# Altium footprint library PcbLib.PcbLib: 43 footprints (part 2 of 3)
Each footprint in its own frame and in the unit in brackets; x right, y up, seen from the top. Pads: shape width x height; smd on the part's side, far side on the other; paste and mask are expansions set on the pad; w line width, h text height; cw(c..) or ccw(c..) is an arc to the next point about the centre after c.
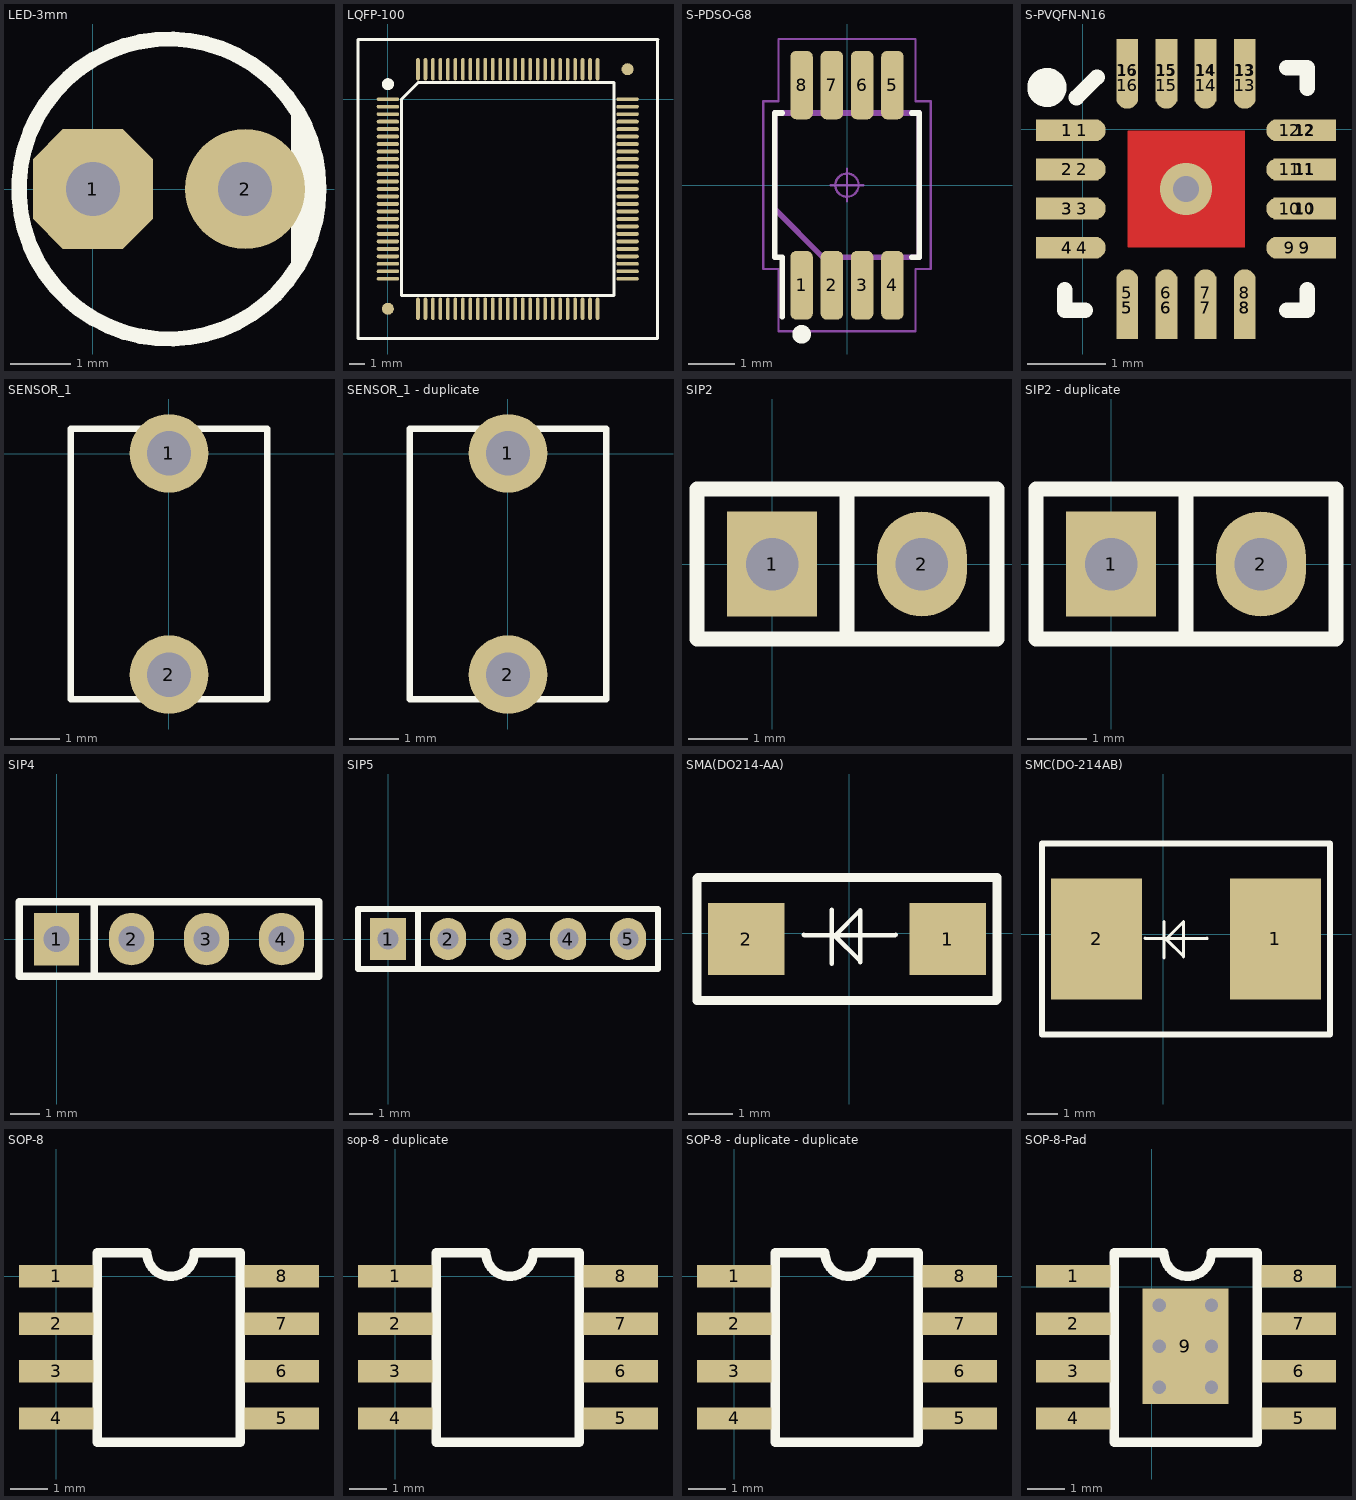
[diagram p1: the footprints below, top view; thin cyan lines are the x and y axes]

## LED-3mm [mm]
height 1
pads (2):
  oct 2x2 hole 0.9: 1(0,0)
  round 2 hole 0.9: 2(2.54,0)
Top Overlay:
  circle w0.254: c1.27,0 r2.5
  lines w0.254: 3.429,-1.27 3.429,1.27 ; 3.556,-0.635 3.556,0.762

## LQFP-100 [mm]
height 1.1
pads (102):
  oval 1.5x0.25 smd: 1(0,0) 2(0,-0.5) 3(0,-1) 4(0,-1.5) 5(0,-2) 6(0,-2.5) 7(0,-3) 8(0,-3.5) 9(0,-4) 10(0,-4.5) 11(0,-5) 12(0,-5.5) 13(0,-6) 14(0,-6.5) 15(0,-7) 16(0,-7.5) 17(0,-8) 18(0,-8.5) 19(0,-9) 20(0,-9.5) 21(0,-10) 22(0,-10.5) 23(0,-11) 24(0,-11.5) 25(0,-12) 51(16,-12) 52(16,-11.5) 53(16,-11) 54(16,-10.5) 55(16,-10) 56(16,-9.5) 57(16,-9) 58(16,-8.5) 59(16,-8) 60(16,-7.5) 61(16,-7) 62(16,-6.5) 63(16,-6) 64(16,-5.5) 65(16,-5) 66(16,-4.5) 67(16,-4) 68(16,-3.5) 69(16,-3) 70(16,-2.5) 71(16,-2) 72(16,-1.5) 73(16,-1) 74(16,-0.5) 75(16,0)
  oval 0.25x1.5 smd: 26(2,-14) 27(2.5,-14) 28(3,-14) 29(3.5,-14) 30(4,-14) 31(4.5,-14) 32(5,-14) 33(5.5,-14) 34(6,-14) 35(6.5,-14) 36(7,-14) 37(7.5,-14) 38(8,-14) 39(8.5,-14) 40(9,-14) 41(9.5,-14) 42(10,-14) 43(10.5,-14) 44(11,-14) 45(11.5,-14) 46(12,-14) 47(12.5,-14) 48(13,-14) 49(13.5,-14) 50(14,-14) 76(14,2) 77(13.5,2) 78(13,2) 79(12.5,2) 80(12,2) 81(11.5,2) 82(11,2) 83(10.5,2) 84(10,2) 85(9.5,2) 86(9,2) 87(8.5,2) 88(8,2) 89(7.5,2) 90(7,2) 91(6.5,2) 92(6,2) 93(5.5,2) 94(5,2) 95(4.5,2) 96(4,2) 97(3.5,2) 98(3,2) 99(2.5,2) 100(2,2)
  round 0.8 smd: ""(0,-14) ""(16,2)
Top Overlay:
  circle w0.4: c0,1 r0.2
  lines w0.2: 18,4 18,-16 -2,-16 -2,4 18.034,4 ; 0.9,-13.1 15.1,-13.1 15.1,1.1 2,1.1 0.9,0 0.9,-13.1

## S-PDSO-G8 [mm] "Small Outline Pkg (SOP), 0.65 mm pitch; 8 pin, 3.00 mm L X 3.00 mm W X 1.10 mm H body"
height 1.1
pads (8):
  rrect50% 0.48x1.47 smd: 1(-0.975,-2.15) 2(-0.325,-2.15) 3(0.325,-2.15) 4(0.975,-2.15) 5(0.975,2.15) 6(0.325,2.15) 7(-0.325,2.15) 8(-0.975,2.15)
Top Overlay:
  circle w0.2: c-0.975,-3.205 r0.1
  lines w0.12: -1.395,-2.825 -1.395,-1.55 -1.55,-1.55 -1.55,1.55 -1.395,1.55 ; 1.395,-1.55 1.55,-1.55 1.55,1.55 1.395,1.55
Mechanical 11:
  lines w0.12: -1.55,-0.517 -0.517,-1.55 1.55,-1.55 1.55,1.55 -1.55,1.55 -1.55,-0.517
Mechanical 15:
  circle w0.05: c0,0 r0.25
  lines w0.05: -0.35,0 0.35,0 ; 0,-0.35 0,0.35 ; -1.8,-1.8 -1.47,-1.8 -1.47,-3.14 1.47,-3.14 1.47,-1.8 1.8,-1.8 1.8,1.8 1.47,1.8 1.47,3.14 -1.47,3.14 -1.47,1.8 -1.8,1.8 -1.8,-1.8

## S-PVQFN-N16 [mm]
height 1
pads (48):
  rect 0.28x0.28 smd: 1(-0.194,-0.012) 2(-0.194,-0.512) 3(-0.194,-1.012) 4(-0.194,-1.512) 5(0.571,-2.277) 6(1.071,-2.277) 7(1.571,-2.277) 8(2.071,-2.277) 9(2.836,-1.512) 10(2.836,-1.012) 11(2.836,-0.512) 12(2.836,-0.012) 13(2.071,0.753) 14(1.571,0.753) 15(1.071,0.753) 16(0.571,0.753)
  rect 0.8x0.28 smd: 1(-0.194,-0.012) 2(-0.194,-0.512) 3(-0.194,-1.012) 4(-0.194,-1.512) 9(2.836,-1.512) 10(2.836,-1.012) 11(2.836,-0.512) 12(2.836,-0.012)
  oval 0.6x0.28 smd: 1(-0.004,-0.012) 2(-0.004,-0.512) 3(-0.004,-1.012) 4(-0.004,-1.512) 9(2.646,-1.512) 10(2.646,-1.012) 11(2.646,-0.512) 12(2.646,-0.012)
  rect 0.28x0.8 smd: 5(0.571,-2.277) 6(1.071,-2.277) 7(1.571,-2.277) 8(2.071,-2.277) 13(2.071,0.753) 14(1.571,0.753) 15(1.071,0.753) 16(0.571,0.753)
  oval 0.28x0.6 smd: 5(0.571,-2.087) 6(1.071,-2.087) 7(1.571,-2.087) 8(2.071,-2.087) 13(2.071,0.563) 14(1.571,0.563) 15(1.071,0.563) 16(0.571,0.563)
via 1.321,-0.762 diameter 0.66 hole 0.33
Top Layer:
  region: 0.573,-0.012 0.573,-1.512 2.073,-1.512 2.073,-0.012
Top Overlay:
  circle w0.25: c-0.455,0.533 r0.125
  lines w0.2: -0.229,-2.052 -0.229,-2.312 0.031,-2.312 ; -0.076,0.406 0.184,0.666 ; 2.611,-2.312 2.871,-2.312 2.871,-2.052 ; 2.611,0.788 2.871,0.788 2.871,0.528

## SENSOR_1 [mm]
height 1
pads (2):
  round 1.6 hole 0.9: 1(0,0.004) 2(0,-4.496)
Top Overlay:
  lines w0.127: -2,-4.996 -2,0.504 2,0.504 2,-4.996 -2,-4.996

## SENSOR_1 - duplicate [mm]
height 1.1
pads (2):
  round 1.6 hole 0.9: 1(0,0.004) 2(0,-4.496)
Top Overlay:
  lines w0.127: -2,-4.996 2,-4.996 2,0.504 -2,0.504 -2,-4.996

## SIP2 [mil]
height 39.37
pads (2):
  rect 60x70 hole 35: 1(0,0)
  oval 60x70 hole 35: 2(100,0)
Top Overlay:
  lines w10: 50,-50 50,50 ; -50,-50 -50,50 150,50 150,-50 -50,-50

## SIP2 - duplicate [mil]
height 43.31
pads (2):
  rect 60x70 hole 35: 1(0,0)
  oval 60x70 hole 35: 2(100,0)
Top Overlay:
  lines w10: 50,-50 50,50 ; -50,-50 -50,50 150,50 150,-50 -50,-50

## SIP4 [mil]
height 39.37
pads (4):
  rect 60x70 hole 35: 1(0,0)
  oval 60x70 hole 35: 2(100,0) 3(200,0) 4(300,0)
Top Overlay:
  lines w10: 50,-50 50,50 ; -50,-50 350,-50 350,50 -50,50 -50,-50

## SIP5 [mil]
height 43.31
pads (5):
  rect 60x70 hole 35: 1(0,0)
  oval 60x70 hole 35: 2(100,0) 3(200,0) 4(300,0) 5(400,0)
Top Overlay:
  lines w10: 50,-50 50,50 ; -50,-50 450,-50 450,50 -50,50 -50,-50

## SMA(DO214-AA) [mm]
height 1.1
pads (2):
  rect 1.7x1.6 smd: 1(2.2,-0.125) 2(-2.3,-0.125)
Top Overlay:
  lines w0.1: -1.015,-0.025 -1.002,-0.038 -0.334,-0.038 ; -0.39,-0.675 -0.39,0.525 ; 0.25,-0.648 0.25,-0.622 ; 1.035,-0.025 1.022,-0.038 0.479,-0.038 -0.41,-0.038 -0.334,-0.038 ; -0.334,-0.038 0.25,-0.622 ; -0.334,-0.038 -0.309,-0.038 0.25,0.521 0.25,-0.622
  lines w0.2: -3.4,-0.925 -3.4,1.225 ; -3.4,1 -3.4,-1.5 -2.1,-1.5 ; -3.175,-1.5 3.1,-1.5 ; -3.15,1.25 -2.125,1.25 ; -2.5,-1.5 2.5,-1.5 ; -2.475,1.25 0.025,1.25 2.525,1.25 3.125,1.25 3.3,1.25 3.3,0.725 ; 3.3,-1.475 3.3,1
  lines w0.203: -3.4,1.225 -3.375,1.25 -2.375,1.25 ; 2.6,-1.5 3.275,-1.5 3.3,-1.475

## SMC(DO-214AB) [mm]
height 1.1
pads (2):
  rect 3x4 smd: 1(3.7,-0.15) 2(-2.2,-0.15)
Top Overlay:
  lines w0.1: -0.6,-0.125 -0.587,-0.138 0.081,-0.138 ; 0.025,-0.775 0.025,0.425 ; 0.665,-0.748 0.665,-0.722 ; 1.45,-0.125 1.437,-0.138 0.893,-0.138 0.004,-0.138 0.081,-0.138 ; 0.081,-0.138 0.106,-0.138 0.665,0.421 0.665,-0.722 ; 0.081,-0.138 0.665,-0.722
  lines w0.203: -3,3 3.5,3 5.5,3 5.5,-3.3 3.6,-3.3 ; -2.4,3 -4,3 -4,-3.3 -3.2,-3.3 4,-3.3

## SOP-8 [mm]
height 1
pads (8):
  rect 2x0.6 smd: 1(0,0) 2(0,-1.27) 3(0,-2.54) 4(0,-3.81) 5(6.048,-3.81) 6(6.048,-2.54) 7(6.048,-1.27) 8(6.048,0)
Top Overlay:
  lines w0.254: 1.098,-4.445 4.938,-4.445 4.938,0.635 3.703,0.635 cw(c3.068,0.635) 2.433,0.635 1.098,0.635 1.098,-4.445

## sop-8 - duplicate [mm]
height 1.1
pads (8):
  rect 2x0.6 smd: 1(0,0) 2(0,-1.27) 3(0,-2.54) 4(0,-3.81) 5(6.048,-3.81) 6(6.048,-2.54) 7(6.048,-1.27) 8(6.048,0)
Top Overlay:
  lines w0.254: 1.098,-4.445 1.098,0.635 2.433,0.635 ccw(c3.068,0.635) 3.703,0.635 4.938,0.635 4.938,-4.445 1.098,-4.445

## SOP-8 - duplicate - duplicate [mm]
pads (8):
  rect 2x0.6 smd: 1(0,0) 2(0,-1.27) 3(0,-2.54) 4(0,-3.81) 5(6.048,-3.81) 6(6.048,-2.54) 7(6.048,-1.27) 8(6.048,0)
Top Overlay:
  lines w0.254: 1.098,-4.445 4.938,-4.445 4.938,0.635 3.703,0.635 cw(c3.068,0.635) 2.433,0.635 1.098,0.635 1.098,-4.445

## SOP-8-Pad [mm]
height 1.1
pads (9):
  rect 2x0.6 smd: 1(-2.109,0.271) 2(-2.109,-0.999) 3(-2.109,-2.269) 4(-2.109,-3.539) 5(3.939,-3.539) 6(3.939,-2.269) 7(3.939,-0.999) 8(3.939,0.271)
  rect 2.3x3.1 smd: 9(0.9,-1.6)
via 0.2,-0.5 diameter 0.711 hole 0.356
via 1.6,-0.5 diameter 0.711 hole 0.356
via 0.2,-2.7 diameter 0.711 hole 0.356
via 1.6,-2.7 diameter 0.711 hole 0.356
via 0.2,-1.6 diameter 0.711 hole 0.356
via 1.6,-1.6 diameter 0.711 hole 0.356
Top Overlay:
  lines w0.254: -1.011,-4.174 2.829,-4.174 2.829,0.906 1.594,0.906 cw(c0.959,0.906) 0.324,0.906 -1.011,0.906 -1.011,-4.174